# Altium schematic symbol library TPS2121RUXR.SchLib: 1 symbol
Pins are listed as number, name and electrical type; pins without a type are passive.

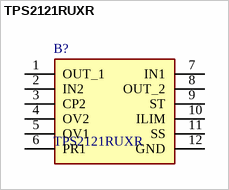
[diagram p0: symbol TPS2121RUXR]

## TPS2121RUXR
designator B?
2.7-22V, 56m, 4.5A, Priority Power MUX with Seamless Switchover; Manufacturer_Name: Texas Instruments; Geometry.Height: 1mm; Mouser Part Number: 595-TPS2121RUXR; Mouser Price/Stock: https://www.mouser.co.uk/ProductDetail/Texas-Instruments/TPS2121RUXR?qs=qSfuJ%252Bfl%2Fd7dCYiVnUfngQ%3D%3D; Manufacturer_Part_Number: TPS2121RUXR; Datasheet Link: https://www.ti.com/lit/gpn/TPS2121
footprint TPS2121RUXR
pins: 1 OUT_1, 2 IN2, 3 CP2, 4 OV2, 5 OV1, 6 PR1, 7 IN1, 8 OUT_2, 9 ST, 10 ILIM, 11 SS, 12 GND